# Altium footprint library QFP-100.PcbLib: 1 footprints
Each footprint in its own frame and in the unit in brackets; x right, y up, seen from the top. Pads: shape width x height; smd on the part's side, far side on the other; paste and mask are expansions set on the pad; w line width, h text height; cw(c..) or ccw(c..) is an arc to the next point about the centre after c.
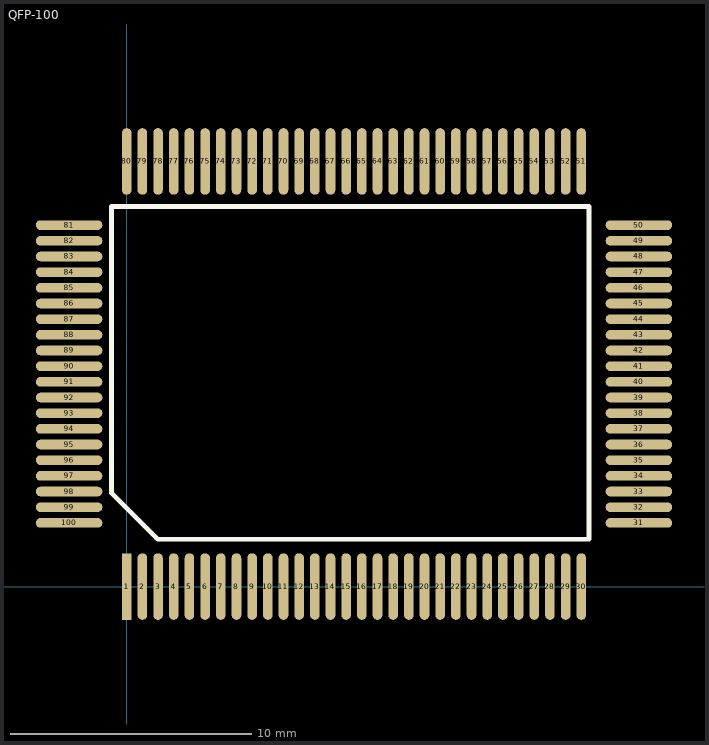
[diagram p0: the footprint, top view; thin cyan lines are the x and y axes]

## QFP-100 [mm]
pads (100):
  rect 0.4x2.76 smd: 1(0,0)
  oval 0.4x2.76 smd: 2(0.65,0) 3(1.3,0) 4(1.95,0) 5(2.6,0) 6(3.25,0) 7(3.9,0) 8(4.55,0) 9(5.2,0) 10(5.85,0) 11(6.5,0) 12(7.15,0) 13(7.8,0) 14(8.45,0) 15(9.1,0) 16(9.75,0) 17(10.4,0) 18(11.05,0) 19(11.7,0) 20(12.35,0) 21(13,0) 22(13.65,0) 23(14.3,0) 24(14.95,0) 25(15.6,0) 26(16.25,0) 27(16.9,0) 28(17.55,0) 29(18.2,0) 30(18.85,0) 51(18.85,17.63) 52(18.2,17.63) 53(17.55,17.63) 54(16.9,17.63) 55(16.25,17.63) 56(15.6,17.63) 57(14.95,17.63) 58(14.3,17.63) 59(13.65,17.63) 60(13,17.63) 61(12.35,17.63) 62(11.7,17.63) 63(11.05,17.63) 64(10.4,17.63) 65(9.75,17.63) 66(9.1,17.63) 67(8.45,17.63) 68(7.8,17.63) 69(7.15,17.63) 70(6.5,17.63) 71(5.85,17.63) 72(5.2,17.63) 73(4.55,17.63) 74(3.9,17.63) 75(3.25,17.63) 76(2.6,17.63) 77(1.95,17.63) 78(1.3,17.63) 79(0.65,17.63) 80(0,17.63)
  oval 2.76x0.4 smd: 31(21.24,2.64) 32(21.24,3.29) 33(21.24,3.94) 34(21.24,4.59) 35(21.24,5.24) 36(21.24,5.89) 37(21.24,6.54) 38(21.24,7.19) 39(21.24,7.84) 40(21.24,8.49) 41(21.24,9.14) 42(21.24,9.79) 43(21.24,10.44) 44(21.24,11.09) 45(21.24,11.74) 46(21.24,12.39) 47(21.24,13.04) 48(21.24,13.69) 49(21.24,14.34) 50(21.24,14.99) 81(-2.39,14.99) 82(-2.39,14.34) 83(-2.39,13.69) 84(-2.39,13.04) 85(-2.39,12.39) 86(-2.39,11.74) 87(-2.39,11.09) 88(-2.39,10.44) 89(-2.39,9.79) 90(-2.39,9.14) 91(-2.39,8.49) 92(-2.39,7.84) 93(-2.39,7.19) 94(-2.39,6.54) 95(-2.39,5.89) 96(-2.39,5.24) 97(-2.39,4.59) 98(-2.39,3.94) 99(-2.39,3.29) 100(-2.39,2.64)
TopOverlay:
  lines w0.2: -0.627,3.878 1.288,1.963 19.173,1.963 19.173,15.763 -0.627,15.763 -0.627,3.878